# EAGLE library part PIN1X10-SMT2.0 (library Connector)
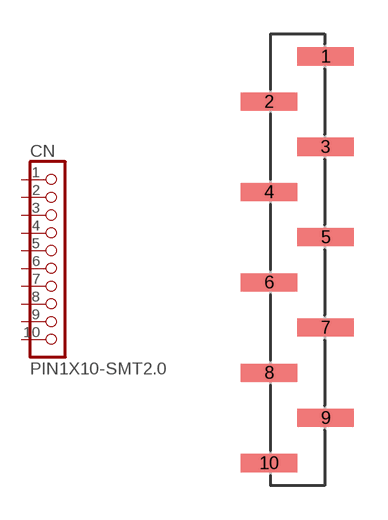
[diagram p17: symbol with the pads of PIN1X10-SMT2.0; footprint PIN1X10-SMT2.0]

Designator prefix CN

## PIN1X10-SMT2.0  [PIN1X10-SMT2.0]
1  1  pas
2  2  pas
3  3  pas
4  4  pas
5  5  pas
6  6  pas
7  7  pas
8  8  pas
9  9  pas
10  10  pas

## Footprint PIN1X10-SMT2.0 (pad centres in mm)
smd 2.5 x 0.8: 1 1.25,9; 2 -1.25,7; 3 1.25,5; 4 -1.25,3; 5 1.25,1; 6 -1.25,-1; 7 1.25,-3; 8 -1.25,-5; 9 1.25,-7; 10 -1.25,-9